# Altium footprint library ChipLEDS.PcbLib: 4 footprints
Each footprint in its own frame and in the unit in brackets; x right, y up, seen from the top. Pads: shape width x height; smd on the part's side, far side on the other; paste and mask are expansions set on the pad; w line width, h text height; cw(c..) or ccw(c..) is an arc to the next point about the centre after c.
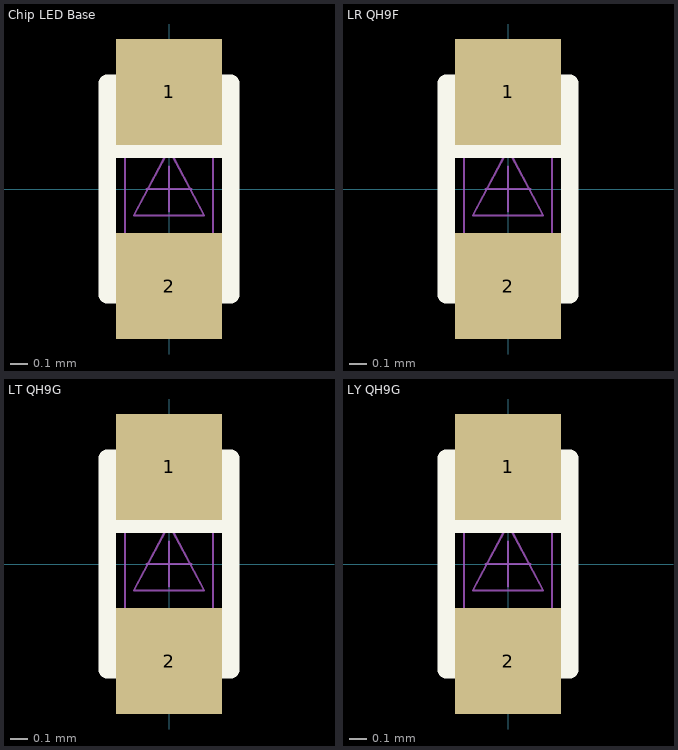
[diagram p0: the footprints below, top view; thin cyan lines are the x and y axes]

## Chip LED Base [mm] "CHIPLED 0402 Lx QH9x OSRAM"
height 0.4
pads (2):
  rect 0.6x0.6 smd paste-0.5 mask+0.1: 1(0,0.55) 2(0,-0.55)
Top Overlay:
  lines w0.1: -0.35,0.225 0.35,0.225 ; -0.35,0.325 0.35,0.325 ; -0.35,0.375 0.35,0.375 ; -0.35,-0.6 -0.35,0.6 0.35,0.6 0.35,-0.6 -0.35,-0.6
Top Paste:
  region: -0.275,0.25 -0.287,0.6 -0.24,0.715 -0.125,0.762 -0.125,0.75 0.125,0.762 0.24,0.715 0.287,0.6 0.275,0.6 0.275,0.25 0,0.35
  region: 0.275,-0.25 0.287,-0.6 0.24,-0.715 0.125,-0.762 0.125,-0.75 -0.125,-0.762 -0.24,-0.715 -0.287,-0.6 -0.275,-0.6 -0.275,-0.25 0,-0.35
  lines w0.01: -0.275,-0.6 ccw(c-0.125,-0.6) -0.125,-0.75 0.125,-0.75 ccw(c0.125,-0.6) 0.275,-0.6 0.275,-0.25 0,-0.35 -0.275,-0.25 -0.275,-0.6 ; -0.275,0.25 -0.275,0.6 cw(c-0.125,0.6) -0.125,0.75 0.125,0.75 cw(c0.125,0.6) 0.275,0.6 0.275,0.25 0,0.35 -0.275,0.25
2D L3:
  lines w0.01: -0.2,0.225 0,0.225 ; -0.127,0 0.127,0 ; 0,-0.127 0,0.127 ; 0.2,0.225 0,0.225 ; 0,0.225 -0.2,-0.15 0.2,-0.15 0,0.225 ; -0.25,-0.5 -0.25,0.5 0.25,0.5 0.25,-0.5 -0.25,-0.5
3D body: height 0.35, standoff 0.15, extent -0.25,-0.5 0.25,0.5
3D body: height 0.16, standoff 0, extent -0.252,-0.502 0.252,0.502

## LR QH9F [mm] "CHIPLED RED 0402 / LR QH9F OSRAM"
height 0.4
pads (2):
  rect 0.6x0.6 smd paste-0.5 mask+0.1: 1(0,0.55) 2(0,-0.55)
Top Overlay:
  lines w0.1: -0.35,0.225 0.35,0.225 ; -0.35,0.325 0.35,0.325 ; -0.35,0.375 0.35,0.375 ; -0.35,-0.6 -0.35,0.6 0.35,0.6 0.35,-0.6 -0.35,-0.6
Top Paste:
  region: -0.275,0.25 -0.287,0.6 -0.24,0.715 -0.125,0.762 -0.125,0.75 0.125,0.762 0.24,0.715 0.287,0.6 0.275,0.6 0.275,0.25 0,0.35
  region: 0.275,-0.25 0.287,-0.6 0.24,-0.715 0.125,-0.762 0.125,-0.75 -0.125,-0.762 -0.24,-0.715 -0.287,-0.6 -0.275,-0.6 -0.275,-0.25 0,-0.35
  lines w0.01: -0.275,-0.6 ccw(c-0.125,-0.6) -0.125,-0.75 0.125,-0.75 ccw(c0.125,-0.6) 0.275,-0.6 0.275,-0.25 0,-0.35 -0.275,-0.25 -0.275,-0.6 ; -0.275,0.25 -0.275,0.6 cw(c-0.125,0.6) -0.125,0.75 0.125,0.75 cw(c0.125,0.6) 0.275,0.6 0.275,0.25 0,0.35 -0.275,0.25
2D L3:
  lines w0.01: -0.2,0.225 0,0.225 ; -0.127,0 0.127,0 ; 0,-0.127 0,0.127 ; 0.2,0.225 0,0.225 ; 0,0.225 -0.2,-0.15 0.2,-0.15 0,0.225 ; -0.25,-0.5 -0.25,0.5 0.25,0.5 0.25,-0.5 -0.25,-0.5
3D body: height 0.35, standoff 0.15, extent -0.25,-0.5 0.25,0.5
3D body: height 0.16, standoff 0, extent -0.252,-0.502 0.252,0.502

## LT QH9G [mm] "CHIPLED TREU GREEN 0402 / LT QH9G OSRAM"
height 0.4
pads (2):
  rect 0.6x0.6 smd paste-0.5 mask+0.1: 1(0,0.55) 2(0,-0.55)
Top Overlay:
  lines w0.1: -0.35,0.225 0.35,0.225 ; -0.35,0.325 0.35,0.325 ; -0.35,0.375 0.35,0.375 ; -0.35,-0.6 0.35,-0.6 0.35,0.6 -0.35,0.6 -0.35,-0.6
Top Paste:
  region: 0.275,-0.25 0.287,-0.6 0.24,-0.715 0.125,-0.762 0.125,-0.75 -0.125,-0.762 -0.24,-0.715 -0.287,-0.6 -0.275,-0.6 -0.275,-0.25 0,-0.35
  region: -0.275,0.25 -0.287,0.6 -0.24,0.715 -0.125,0.762 -0.125,0.75 0.125,0.762 0.24,0.715 0.287,0.6 0.275,0.6 0.275,0.25 0,0.35
  lines w0.01: -0.275,-0.6 ccw(c-0.125,-0.6) -0.125,-0.75 0.125,-0.75 ccw(c0.125,-0.6) 0.275,-0.6 0.275,-0.25 0,-0.35 -0.275,-0.25 -0.275,-0.6 ; -0.275,0.25 0,0.35 0.275,0.25 0.275,0.6 ccw(c0.125,0.6) 0.125,0.75 -0.125,0.75 ccw(c-0.125,0.6) -0.275,0.6 -0.275,0.25
2D L3:
  lines w0.01: -0.2,0.225 0,0.225 ; -0.127,0 0.127,0 ; 0,-0.127 0,0.127 ; 0.2,0.225 0,0.225 ; 0,0.225 0.2,-0.15 -0.2,-0.15 0,0.225 ; -0.25,-0.5 0.25,-0.5 0.25,0.5 -0.25,0.5 -0.25,-0.5
3D body: height 0.35, standoff 0.15, extent -0.25,-0.5 0.25,0.5
3D body: height 0.16, standoff 0, extent -0.252,-0.502 0.252,0.502

## LY QH9G [mm] "CHIPLED YELLOW 0402 / LY QH9G OSRAM"
height 0.4
pads (2):
  rect 0.6x0.6 smd paste-0.5 mask+0.1: 1(0,0.55) 2(0,-0.55)
Top Overlay:
  lines w0.1: -0.35,0.225 0.35,0.225 ; -0.35,0.325 0.35,0.325 ; -0.35,0.375 0.35,0.375 ; -0.35,-0.6 0.35,-0.6 0.35,0.6 -0.35,0.6 -0.35,-0.6
Top Paste:
  region: 0.275,-0.25 0.287,-0.6 0.24,-0.715 0.125,-0.762 0.125,-0.75 -0.125,-0.762 -0.24,-0.715 -0.287,-0.6 -0.275,-0.6 -0.275,-0.25 0,-0.35
  region: -0.275,0.25 -0.287,0.6 -0.24,0.715 -0.125,0.762 -0.125,0.75 0.125,0.762 0.24,0.715 0.287,0.6 0.275,0.6 0.275,0.25 0,0.35
  lines w0.01: -0.275,-0.6 ccw(c-0.125,-0.6) -0.125,-0.75 0.125,-0.75 ccw(c0.125,-0.6) 0.275,-0.6 0.275,-0.25 0,-0.35 -0.275,-0.25 -0.275,-0.6 ; -0.275,0.25 0,0.35 0.275,0.25 0.275,0.6 ccw(c0.125,0.6) 0.125,0.75 -0.125,0.75 ccw(c-0.125,0.6) -0.275,0.6 -0.275,0.25
2D L3:
  lines w0.01: -0.2,0.225 0,0.225 ; -0.127,0 0.127,0 ; 0,-0.127 0,0.127 ; 0.2,0.225 0,0.225 ; 0,0.225 0.2,-0.15 -0.2,-0.15 0,0.225 ; -0.25,-0.5 0.25,-0.5 0.25,0.5 -0.25,0.5 -0.25,-0.5
3D body: height 0.16, standoff 0, extent -0.252,-0.502 0.252,0.502
3D body: height 0.35, standoff 0.15, extent -0.25,-0.5 0.25,0.5